# Altium footprint library IRM-10-12.PcbLib: 1 footprints
Each footprint in its own frame and in the unit in brackets; x right, y up, seen from the top. Pads: shape width x height; smd on the part's side, far side on the other; paste and mask are expansions set on the pad; w line width, h text height; cw(c..) or ccw(c..) is an arc to the next point about the centre after c.
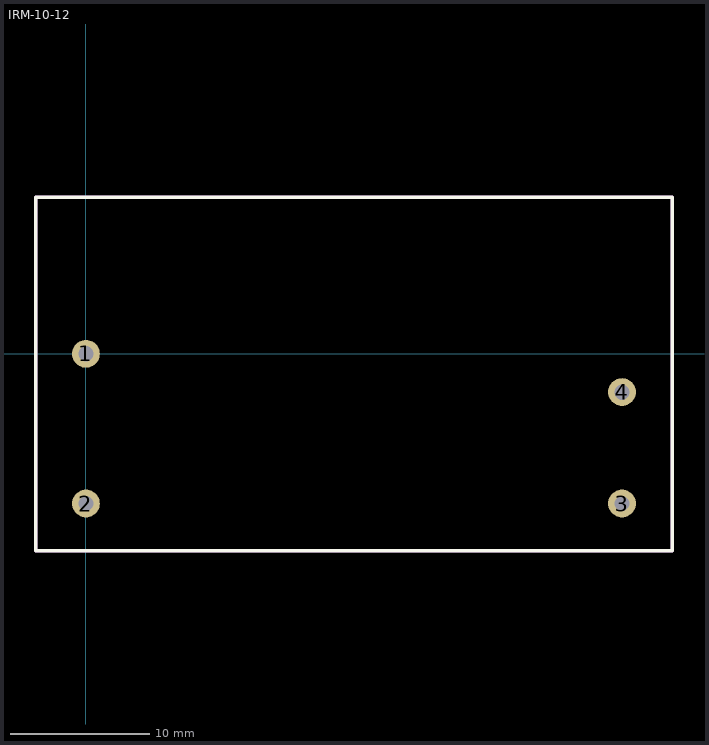
[diagram p0: the footprint, top view; thin cyan lines are the x and y axes]

## IRM-10-12 [mm]
pads (4):
  round 2 hole 1.1: 1(0,0) 2(0,-10.75) 3(38.5,-10.75) 4(38.5,-2.75)
Top Overlay:
  lines w0.254: -3.599,-14.15 42.1,-14.15 42.1,11.25 ; -3.599,-14.15 -3.599,-14.15 ; -3.599,-14.15 -3.599,11.25 42.1,11.25 ; 42.1,11.25 42.1,11.25
TopAssy:
  lines w0.254: -3.599,-14.15 42.1,-14.15 42.1,11.25 ; -3.599,-14.15 -3.599,-14.15 ; -3.599,-14.15 -3.599,11.25 42.1,11.25 ; 42.1,11.25 42.1,11.25
3D body "User Library-IRM-10-12.step": height 22.05, standoff -3.5, extent -3.599,-14.15 42.1,11.25